# EAGLE library part SENSOR_PCB (library Traficon)
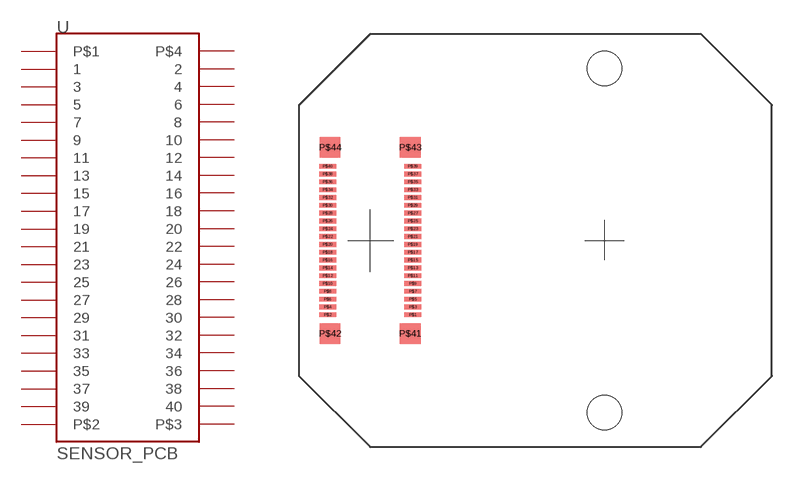
[diagram p143: symbol with the pads of KODAK_SENSOR_PCB; footprint KODAK_SENSOR_PCB]

Designator prefix U

## SENSOR_PCB  [KODAK_SENSOR_PCB]
P$1  1
P$2  2
P$3  3
P$4  4
P$5  5
P$6  6
P$7  7
P$8  8
P$9  9
P$10  10
P$11  11
P$12  12
P$13  13
P$14  14
P$15  15
P$16  16
P$17  17
P$18  18
P$19  19
P$20  20
P$21  21
P$22  22
P$23  23
P$24  24
P$25  25
P$26  26
P$27  27
P$28  28
P$29  29
P$30  30
P$31  31
P$32  32
P$33  33
P$34  34
P$35  35
P$36  36
P$37  37
P$38  38
P$39  39
P$40  40
P$41  P$1
P$42  P$2
P$43  P$3
P$44  P$4

## Footprint KODAK_SENSOR_PCB (pad centres in mm)
smd 1.1 x 0.3: P$1 -7.836,-4.753; P$2 -13.276,-4.753; P$3 -7.836,-4.253; P$4 -13.276,-4.253; P$5 -7.836,-3.753; P$6 -13.276,-3.753; P$7 -7.836,-3.253; P$8 -13.276,-3.253; P$9 -7.836,-2.753; P$10 -13.276,-2.753; P$11 -7.836,-2.253; P$12 -13.276,-2.253; P$13 -7.836,-1.753; P$14 -13.276,-1.753; P$15 -7.836,-1.253; P$16 -13.276,-1.253; P$17 -7.836,-0.753; P$18 -13.276,-0.753; P$19 -7.836,-0.253; P$20 -13.276,-0.253; P$21 -7.836,0.247; P$22 -13.276,0.247; P$23 -7.836,0.747; P$24 -13.276,0.747; P$25 -7.836,1.247; P$26 -13.276,1.247; P$27 -7.836,1.747; P$28 -13.276,1.747; P$29 -7.836,2.247; P$30 -13.276,2.247; P$31 -7.836,2.747; P$32 -13.276,2.747; P$33 -7.836,3.247; P$34 -13.276,3.247; P$35 -7.836,3.747; P$36 -13.276,3.747; P$37 -7.836,4.247; P$38 -13.276,4.247; P$39 -7.836,4.747; P$40 -13.276,4.747
smd 1.32 x 1.3: P$41 -7.996,-5.953; P$42 -13.116,-5.953; P$43 -7.996,5.947; P$44 -13.116,5.947
hole 2.2 at 4.4,11
hole 2.2 at 4.4,-11